# Altium schematic symbol library SUPER28335.SCHLIB: 50 symbols
Pins are listed as number, name and electrical type; pins without a type are passive.

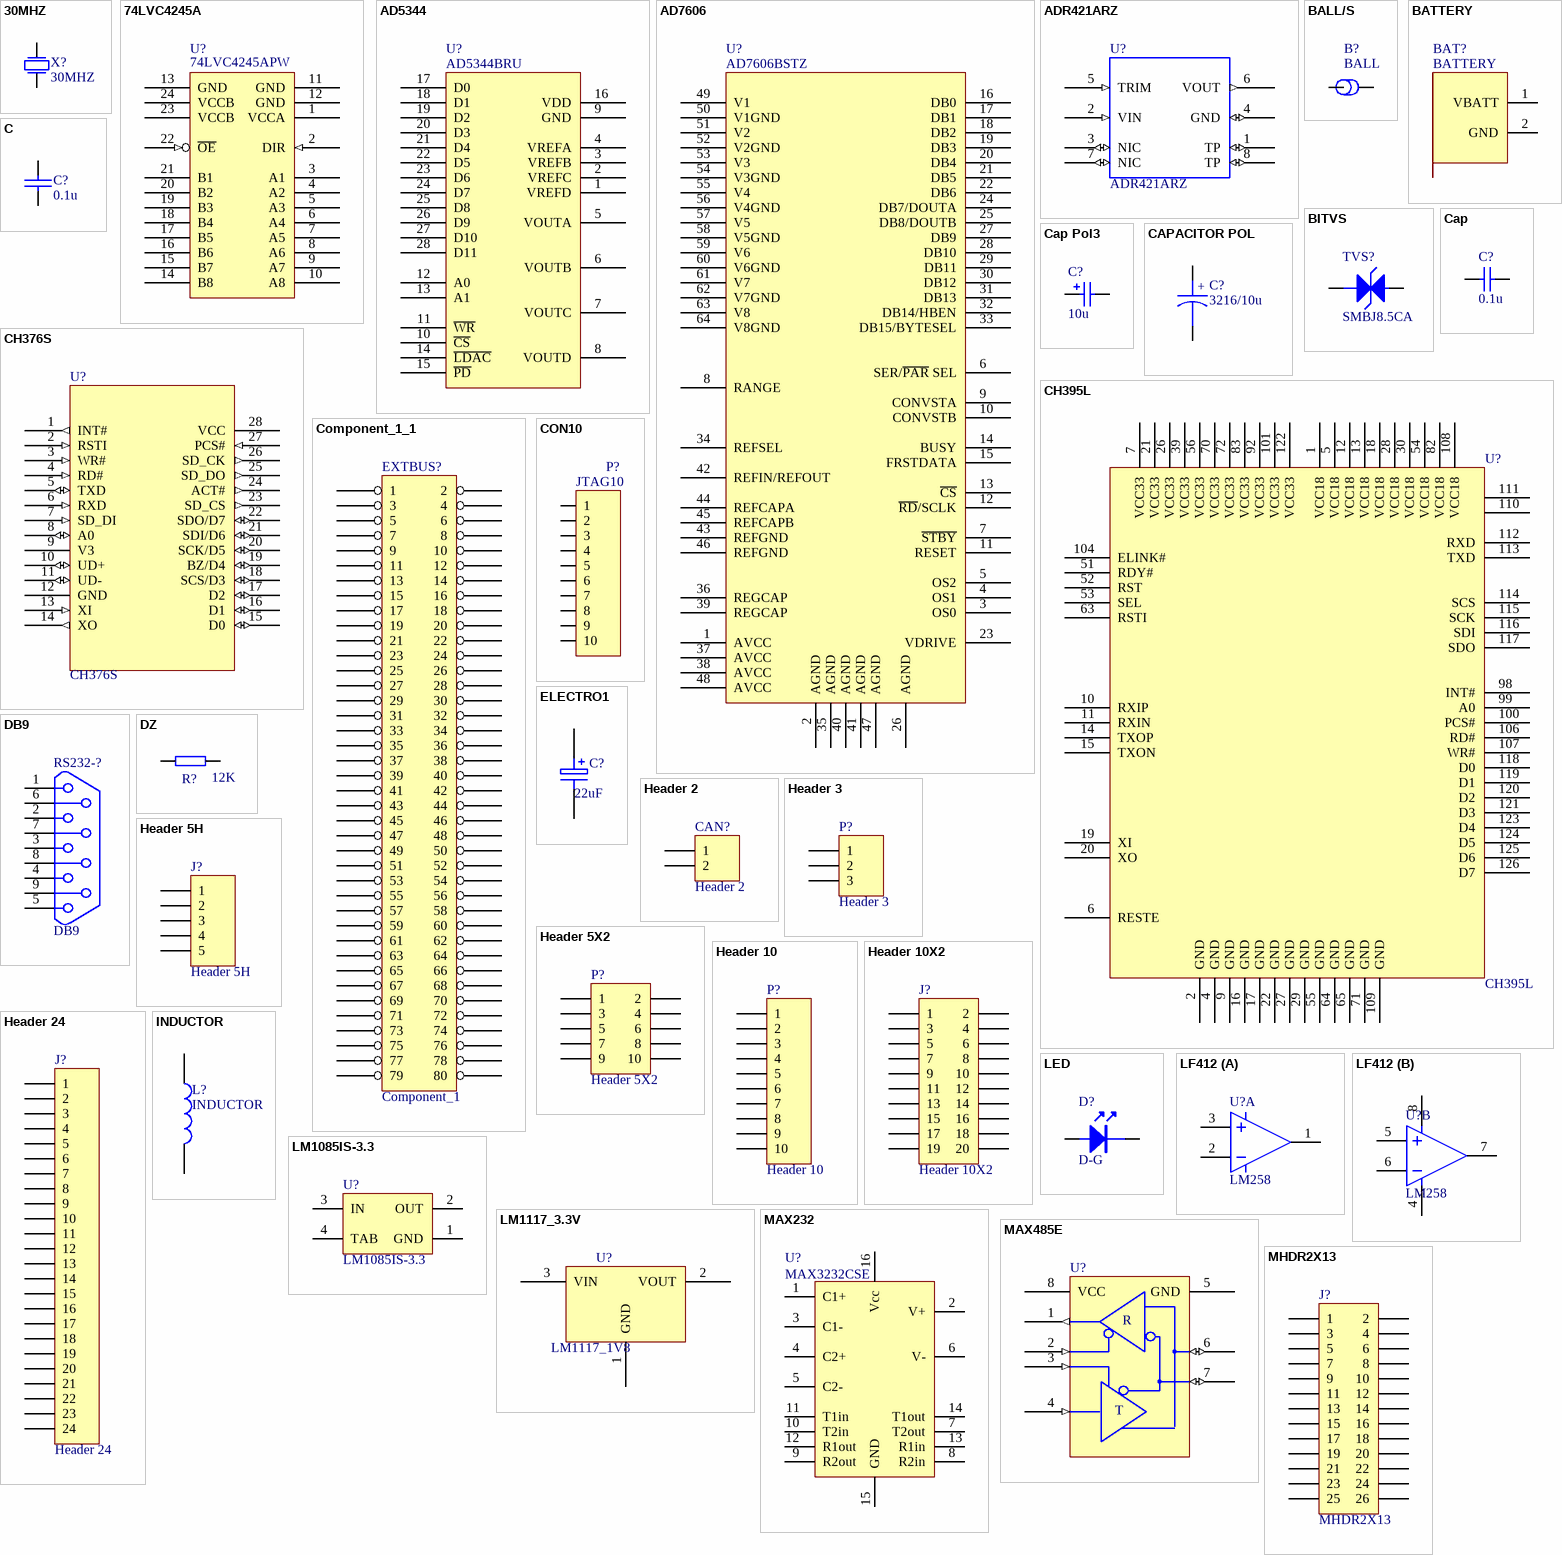
[diagram p0: symbols 30MHZ to MHDR2X13]

## 30MHZ
designator X?
Crystal Oscillator
simulation model 30MHZ (SUBCKT)
footprint XTAL62/28
pins: 1 P1, 2 P2

## 74LVC4245A
designator U?, comment 74LVC4245APW
footprint TSOP-24
pins: 1 VCCA, 2 DIR (in), 3 A1, 4 A2, 5 A3, 6 A4, 7 A5, 8 A6, 9 A7, 10 A8, 11 GND, 12 GND, 13 GND, 14 B8, 15 B7, 16 B6, 17 B5, 18 B4, 19 B3, 20 B2, 21 B1, 22 ~{OE} (in), 23 VCCB, 24 VCCB
2 alternate drawings of the same symbol

## AD5344
designator U?, comment AD5344BRU
footprint TSOP-28
pins: 1 VREFD, 2 VREFC, 3 VREFB, 4 VREFA, 5 VOUTA, 6 VOUTB, 7 VOUTC, 8 VOUTD, 9 GND, 10 ~{CS}, 11 ~{WR}, 12 A0, 13 A1, 14 ~{LDAC}, 15 ~{PD}, 16 VDD, 17 D0, 18 D1, 19 D2, 20 D3, 21 D4, 22 D5, 23 D6, 24 D7, 25 D8, 26 D9, 27 D10, 28 D11
2 alternate drawings of the same symbol

## AD7606
designator U?, comment AD7606BSTZ
AD7606
footprint QFP64-1
footprint TQFP64
pins: 1 AVCC, 2 AGND, 3 OS0, 4 OS1, 5 OS2, 6 SER/~{PAR} SEL, 7 ~{STBY}, 8 RANGE, 9 CONVSTA, 10 CONVSTB, 11 RESET, 12 ~{RD}/SCLK, 13 ~{CS}, 14 BUSY, 15 FRSTDATA, 16 DB0, 17 DB1, 18 DB2, 19 DB3, 20 DB4, 21 DB5, 22 DB6, 23 VDRIVE, 24 DB7/DOUTA, 25 DB8/DOUTB, 26 AGND, 27 DB9, 28 DB10, 29 DB11, 30 DB12, 31 DB13, 32 DB14/HBEN, 33 DB15/BYTESEL, 34 REFSEL, 35 AGND, 36 REGCAP, 37 AVCC, 38 AVCC, 39 REGCAP, 40 AGND, 41 AGND, 42 REFIN/REFOUT, 43 REFGND, 44 REFCAPA, 45 REFCAPB, 46 REFGND, 47 AGND, 48 AVCC, 49 V1, 50 V1GND (power), 51 V2, 52 V2GND, 53 V3, 54 V3GND, 55 V4, 56 V4GND, 57 V5, 58 V5GND, 59 V6, 60 V6GND, 61 V7, 62 V7GND, 63 V8, 64 V8GND
2 alternate drawings of the same symbol

## ADR421ARZ
designator U?
BodyName: *; Instance: *; PartName: *; PLACEMENT_REGION: *; CompValue: *; Right: *; Bottom: *; SymName: *; RefLocation: *; BoardLocation: *; SlotXofY: *
footprint R-8
footprint SO-8
pins: 1 TP (io), 2 VIN (in), 3 NIC (io), 4 GND (io), 5 TRIM (in), 6 VOUT (out), 7 NIC (io), 8 TP (io)
2 alternate drawings of the same symbol

## BALL/S
designator B?, comment BALL
footprint 0805-S
pins: 1, 2

## BATTERY
designator BAT?
footprint BAT600 (Footprint not found)
pins: 1 VBATT, 2 GND

## BITVS
designator TVS?, comment SMBJ8.5CA
footprint BITVS4
footprint 7227
pins: 1, 2

## C
designator C?, comment 0.1u
footprint C1
footprint C2
footprint C3
footprint C4
footprint 0805
footprint 0603
pins: 1, 2
2 alternate drawings of the same symbol

## Cap
designator C?, comment 0.1u
Capacitor; Published: 8-Jun-2000; LatestRevisionDate: 17-Jul-2002; LatestRevisionNote: Re-released for DXP Platform.; PackageReference: RAD-0.3; Publisher: Altium Limited
footprint RAD-0.3 (Radial Cap, Thru-Hole; 2 Leads; 0.3 in Pin Spacing)
footprint CAPR2.54-5.1x3.2 (Capacitor, Ceramic, Thru-Hole, Dipped Radial; Body 5.1 x 3.2 mm (WxT) Pin Spacing 2.54 mm (typ))
footprint CAPR5.08-7.8x3.2 (Capacitor, Ceramic, Thru-Hole, Dipped Radial; Body 7.8 x 3.2 mm (WxT) Pin Spacing 5.08 mm (typ))
simulation model CAP (Capacitor)
signal-integrity model Cap
footprint 0805
footprint 0603
pins: 1, 2

## Cap Pol3
designator C?, comment 10u
Polarized Capacitor (Surface Mount); Value: 10uF/16V; Published: 8-Jun-2000; LatestRevisionDate: 29-May-2009; LatestRevisionNote: IPC-7351 Footprint Added.; PackageReference: C0805; Publisher: Altium Limited; PackageDescription: Chip Capacitor
footprint CAPC2012L (Chip Capacitor, Body 2.0x1.3mm, IPC High Density)
footprint CAPC4532L (Chip Capacitor, Body 4.5x3.2mm, IPC High Density)
footprint CAPC4564L (Chip Capacitor, Body 4.5x6.4mm, IPC High Density)
footprint CAPC5764L (Chip Capacitor, Body 5.7x6.4mm, IPC High Density)
footprint CAPC5750L (Chip Capacitor, Body 5.7x5.0mm, IPC High Density)
simulation model CAP (Capacitor)
signal-integrity model Cap Pol
footprint 0805
pins: 1, 2
1 alternate drawing of the same symbol

## CAPACITOR POL
designator C?, comment 3216/10u
Capacitor
footprint 0805
footprint 3216
pins: 1, 2
2 alternate drawings of the same symbol
text: +

## CH376S
designator U?
USB Host and SD card Host with File System & USB Device for MCU, parallel / SPI / UART Serial
footprint SOP28
footprint DIP28
pins: 1 INT# (out), 2 RSTI (in), 3 WR# (in), 4 RD# (in), 5 TXD (io), 6 RXD (in), 7 SD_DI (in), 8 A0 (io), 9 V3 (power), 10 UD+ (io), 11 UD- (io), 12 GND (power), 13 XI (in), 14 XO (out), 15 D0 (io), 16 D1 (io), 17 D2 (io), 18 SCS/D3 (io), 19 BZ/D4 (io), 20 SCK/D5 (io), 21 SDI/D6 (io), 22 SDO/D7 (io), 23 SD_CS (out), 24 ACT# (out), 25 SD_DO (out), 26 SD_CK (out), 27 PCS# (in), 28 VCC (power)

## CH395L
designator U?
footprint LQFP128
pins: 1 VCC18, 2 GND, 4 GND, 5 VCC18, 6 RESTE, 7 VCC33, 9 GND, 10 RXIP, 11 RXIN, 12 VCC18, 13 VCC18, 14 TXOP, 15 TXON, 16 GND, 17 GND, 18 VCC18, 19 XI, 20 XO, 21 VCC33, 22 GND, 26 VCC33, 27 GND, 28 VCC18, 29 GND, 30 VCC18, 39 VCC33, 51 RDY#, 52 RST, 53 SEL, 54 VCC18, 55 GND, 56 VCC33, 63 RSTI, 64 GND, 65 GND, 70 VCC33, 71 GND, 72 VCC33, 82 VCC18, 83 VCC33, 92 VCC33, 98 INT#, 99 A0, 100 PCS#, 101 VCC33, 104 ELINK#, 106 RD#, 107 WR#, 108 VCC18, 109 GND, 110, 111, 112 RXD, 113 TXD, 114 SCS, 115 SCK, 116 SDI, 117 SDO, 118 D0, 119 D1, 120 D2, 121 D3, 122 VCC33, 123 D4, 124 D5, 125 D6, 126 D7

## Component_1_1
designator EXTBUS?, comment Component_1
footprint PLUG80 (Footprint not found)
pins: 1, 2, 3, 4, 5, 6, 7, 8, 9, 10, 11, 12, 13, 14, 15, 16, 17, 18, 19, 20, 21, 22, 23, 24, 25, 26, 27, 28, 29, 30, 31, 32, 33, 34, 35, 36, 37, 38, 39, 40, 41, 42, 43, 44, 45, 46, 47, 48, 49, 50, 51, 52, 53, 54, 55, 56, 57, 58, 59, 60, 61, 62, 63, 64, 65, 66, 67, 68, 69, 70, 71, 72, 73, 74, 75, 76, 77, 78, 79, 80

## CON10
designator P?, comment JTAG10
footprint IDC10-1
pins: 1, 2, 3, 4, 5, 6, 7, 8, 9, 10
2 alternate drawings of the same symbol

## DB9
designator RS232-?
footprint DB-9RA/M (Footprint not found)
pins: 1, 2, 3, 4, 5, 6, 7, 8, 9

## DZ
designator R?, comment 12K
footprint AXIAL0.3
footprint 0603
footprint 0805
pins: 1, 2

## ELECTRO1
designator C?, comment 22uF
Electrolytic Capacitor
footprint 3528
pins: 1, 2

## Header 2
designator CAN?
Header, 2-Pin; LatestRevisionDate: 17-Jul-2002; LatestRevisionNote: Re-released for DXP Platform.; Publisher: Altium Limited
footprint HDR1X2 (Connector; Header; 2 Position)
signal-integrity model Connector
pins: 1, 2

## Header 3
designator P?
Header, 3-Pin; LatestRevisionDate: 17-Jul-2002; LatestRevisionNote: Re-released for DXP Platform.; Publisher: Altium Limited
footprint HDR1X3 (Connector; Header; 3 Position)
signal-integrity model Connector
pins: 1, 2, 3

## Header 5H
designator J?
Header, 5-Pin, Right Angle; LatestRevisionDate: 17-Jul-2002; LatestRevisionNote: Re-released for DXP Platform.; Publisher: Altium Limited
footprint SIP5 (Footprint not found)
signal-integrity model Connector
pins: 1, 2, 3, 4, 5

## Header 5X2
designator P?
Header, 5-Pin, Dual row; LatestRevisionDate: 17-Jul-2002; LatestRevisionNote: Re-released for DXP Platform.; Publisher: Altium Limited
footprint DIP10-2mm
pins: 1, 2, 3, 4, 5, 6, 7, 8, 9, 10

## Header 10
designator P?
Header, 10-Pin; LatestRevisionDate: 17-Jul-2002; LatestRevisionNote: Re-released for DXP Platform.; Publisher: Altium Limited
footprint HDR110 (Connector; Header; 10 Position)
signal-integrity model Connector
pins: 1, 2, 3, 4, 5, 6, 7, 8, 9, 10

## Header 10X2
designator J?
Header, 10-Pin, Dual row; LatestRevisionDate: 17-Jul-2002; LatestRevisionNote: Re-released for DXP Platform.; Publisher: Altium Limited
footprint HDR210 (Footprint not found)
signal-integrity model Connector
pins: 1, 2, 3, 4, 5, 6, 7, 8, 9, 10, 11, 12, 13, 14, 15, 16, 17, 18, 19, 20

## Header 24
designator J?
Header, 24-Pin; LatestRevisionDate: 17-Jul-2002; LatestRevisionNote: Re-released for DXP Platform.; Publisher: Altium Limited
footprint PLUG24 (Footprint not found)
signal-integrity model Connector
pins: 1, 2, 3, 4, 5, 6, 7, 8, 9, 10, 11, 12, 13, 14, 15, 16, 17, 18, 19, 20, 21, 22, 23, 24

## INDUCTOR
designator L?
footprint 1206 (Footprint not found)
pins: 1, 2
2 alternate drawings of the same symbol

## LED
designator D?, comment D-G
footprint LED1
footprint LED1/2
footprint LED0805-JW
pins: 1, 2
2 alternate drawings of the same symbol

## LF412
designator U?, comment LM258
footprint DIP8
footprint SO-8
part A pins: 1, 2, 3
part B pins: 4, 5, 6, 7, 8
2 alternate drawings of the same symbol

## LM1085IS-3.3
designator U?
3A Low Dropout Positive Regulators; Manufacturer: National Semiconductor; CompType: LDO IC; PackageTopMarking: NSUZXYTTE#*LM1085*IS-3.3; PowerWise: N; Published: 4-Dec-2008; DatasheetVersion: Jun-2005; PackageVersion: revF, Apr-2005; PackageReference: TS3B; Publisher: Altium Limited; PackageDescription: TO-263, Molded, .400 x .390 x .180in, 3 Lead, .1in Pitch, Surface Mount; PartNumber: LM1085IS-3.3; RoHS: O; PinCount: 3; DigiKeyPartNumber: LM1085IS-3.3-ND; Code_JEDEC: MO-169-AA; ComponentLink1Description: LM1085 Datasheet; ComponentLink1URL: http://www.national.com/ds/LM/LM1085.pdf; ComponentLink2Description: LM1085 Web Page; ComponentLink2URL: http://www.national.com/pf/LM/LM1085.html; ComponentLink3Description: TS3B Package Page; ComponentLink3URL: http://www.national.com/packaging/folders/ts3b.html
footprint TS3B_N (D2-PAK, 4-Leads, Body 8.6x10.2mm, Pitch 2.54mm, Lead Span 14.2mm, IPC Medium Density)
footprint TS3B_L (D2-PAK, 4-Leads, Body 8.6x10.2mm, Pitch 2.54mm, Lead Span 14.2mm, IPC High Density)
footprint TS3B_M (D2-PAK, 4-Leads, Body 8.6x10.2mm, Pitch 2.54mm, Lead Span 14.2mm, IPC Low Density)
pins: 1 GND (power), 2 OUT (power), 3 IN (power), 4 TAB (power)

## LM1117_3.3V
designator U?, comment LM1117_1V8
footprint SOT-223
pins: 1 GND, 2 VOUT, 3 VIN

## MAX232
designator U?, comment MAX3232CSE
footprint DIP16
footprint SO-16
pins: 1 C1+, 2 V+, 3 C1-, 4 C2+, 5 C2-, 6 V-, 7 T2out, 8 R2in, 9 R2out, 10 T2in, 11 T1in, 12 R1out, 13 R1in, 14 T1out, 15 GND, 16 Vcc
2 alternate drawings of the same symbol

## MAX485E
designator U?, comment MAX485  (value not drawn)
footprint DIP8
footprint so-8
pins: 1 (out), 2 (in), 3 (in), 4 (in), 5 GND (power), 6 (io), 7 (io), 8 VCC (power)
text: R; T

## MHDR2X13
designator J?
Header, 13-Pin, Dual row; LatestRevisionDate: 17-Jul-2002; LatestRevisionNote: Re-released for DXP Platform.; Publisher: Altium Limited
footprint IDC26
signal-integrity model Connector
pins: 1, 2, 3, 4, 5, 6, 7, 8, 9, 10, 11, 12, 13, 14, 15, 16, 17, 18, 19, 20, 21, 22, 23, 24, 25, 26

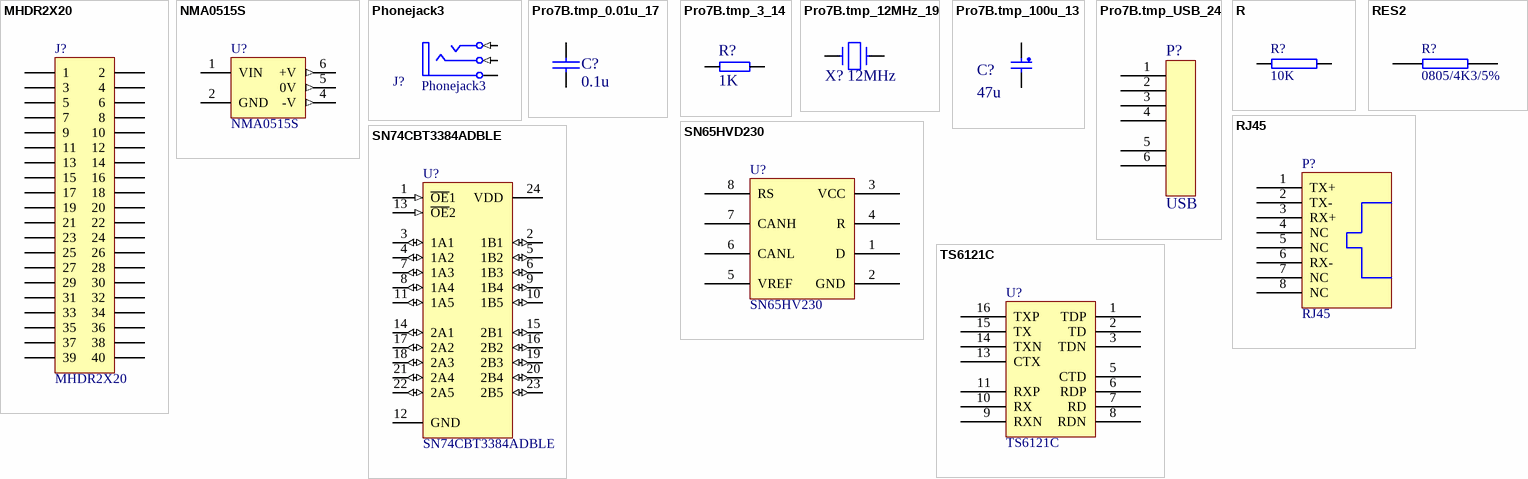
[diagram p1: symbols MHDR2X20 to TS6121C]

## MHDR2X20
designator J?
Header, 20-Pin, Dual row; LatestRevisionDate: 17-Jul-2002; LatestRevisionNote: Re-released for DXP Platform.; Publisher: Altium Limited
footprint MHDR2X20 (Connector; Header; 20x2 Position)
signal-integrity model Connector
pins: 1, 2, 3, 4, 5, 6, 7, 8, 9, 10, 11, 12, 13, 14, 15, 16, 17, 18, 19, 20, 21, 22, 23, 24, 25, 26, 27, 28, 29, 30, 31, 32, 33, 34, 35, 36, 37, 38, 39, 40

## NMA0515S
designator U?
Isolated 1W Dual Output; Note: Pins 3 and 7 are not present.; Published: 8-Jun-2000; LatestRevisionDate: 17-Jul-2002; LatestRevisionNote: Re-released for DXP Platform.; DatasheetVersion: Jul-1996; PackageVersion: 1996; PackageReference: NPSIP7; Publisher: Altium Limited; PackageDescription: SIP; 7 Leads (2 Absent); Body 19.5 x 6 mm (LxW typ); Pitch 2.54 mm; ComponentLink1Description: Manufacturer Link; ComponentLink1URL: http://www.dc-dc.com/; ComponentLink2Description: Datasheet; ComponentLink2URL: http://www.cd4power.com/data/power/ncl/ndc_nma_3.pdf
footprint MIP-6 (Footprint not found)
pins: 1 VIN (power), 2 GND (power), 4 -V (out), 5 0V (out), 6 +V (out)

## Phonejack3
designator J?
Jack Socket, 1/4" [6.5mm], Thru-Hole, Vertical, 3-Conductor Open Circuit (Non-Normalling); PackageDocument: 2003; PCB_Layout: Complies with manufacturer's recommendation.; DrillAndSlotSize: Corresponds to nominal value.; Published: 15-Jul-2004; LatestRevisionDate: 15-Jul-2004; LatestRevisionNote: Component Replaced.; DatasheetDocument: 2003; PackageReference: S1VS_SSS; Publisher: Altium Limited; ComponentLink1Description: Manufacturer Link; ComponentLink1URL: http://www.cliffuk.co.uk/
footprint POWER_PLUG (Footprint not found)
signal-integrity model JACK Socket
pins: 1 T (in) "Tip/Left Channel/(+)", 2 R (in) "Ring/Right Channel/(-)", 3 S (power) "Sleeve (Ground)"

## Pro7B.tmp_0.01u_17
designator C?, comment 0.1u
footprint 0805
pins: 1, 2

## Pro7B.tmp_3_14
designator R?, comment 1K
footprint 0805
pins: 1, 2

## Pro7B.tmp_12MHz_19
designator X?, comment 12MHz
footprint XTAL1
footprint XTAL40/24
pins: 1, 2

## Pro7B.tmp_100u_13
designator C?, comment 47u
footprint CD0.1
footprint 3528
pins: 1, 2

## Pro7B.tmp_USB_24
designator P?, comment USB
footprint USBA
pins: 1, 2, 3, 4, 5, 6

## R
designator R?, comment 10K
footprint AXIAL0.4
footprint R4
footprint 0805
footprint 0603
pins: 1, 2
2 alternate drawings of the same symbol

## RES2
designator R?, comment 0805/4K3/5%
footprint 0603
footprint 0805
pins: 1, 2
2 alternate drawings of the same symbol

## RJ45
designator P?
footprint RJ45
pins: 1 TX+, 2 TX-, 3 RX+, 4 NC, 5 NC, 6 RX-, 7 NC, 8 NC

## SN65HVD230
designator U?, comment SN65HV230
footprint SO-8 (Footprint not found)
pins: 1 D, 2 GND, 3 VCC, 4 R, 5 VREF, 6 CANL, 7 CANH, 8 RS
1 alternate drawing of the same symbol

## SN74CBT3384ADBLE
designator U?
10-Bit FET Bus Switch; ComponentAvailability: Obsolete; Published: 8-Jun-2000; LatestRevisionDate: 16-Oct-2006; LatestRevisionNote: IPC-7351 Footprint Added.; DatasheetVersion: May-1998; PackageVersion: May-1999; PackageReference: DB024; Publisher: Altium Limited; PackageDescription: 24-Pin Plastic Small Outline Package 0.65 mm Pitch; Code_JEDEC: MO-150-AG; Code_IPC: SOP65P780-24; ComponentLink1Description: Manufacturer Link; ComponentLink1URL: http://www.ti.com/; ComponentLink2Description: Datasheet; ComponentLink2URL: http://www-s.ti.com/sc/ds/sn74cbt3384a.pdf
footprint 3384 (Footprint not found)
footprint DB024_L (SOP, 24-Leads, Body 8.2x5.3mm, Pitch 0.65mm, IPC High Density)
footprint DB024_M (SOP, 24-Leads, Body 8.2x5.3mm, Pitch 0.65mm, IPC Low Density)
3D model DB024 (24-Pin Plastic Small Outline Package 0.65 mm Pitch)
pins: 1 ~{OE}1 (in), 2 1B1 (io), 3 1A1 (io), 4 1A2 (io), 5 1B2 (io), 6 1B3 (io), 7 1A3 (io), 8 1A4 (io), 9 1B4 (io), 10 1B5 (io), 11 1A5 (io), 12 GND (power), 13 ~{OE}2 (in), 14 2A1 (io), 15 2B1 (io), 16 2B2 (io), 17 2A2 (io), 18 2A3 (io), 19 2B3 (io), 20 2B4 (io), 21 2A4 (io), 22 2A5 (io), 23 2B5 (io), 24 VDD (power)

## TS6121C
designator U?
footprint HR601680
pins: 1 TDP, 2 TD, 3 TDN, 5 CTD, 6 RDP, 7 RD, 8 RDN, 9 RXN, 10 RX, 11 RXP, 13 CTX, 14 TXN, 15 TX, 16 TXP

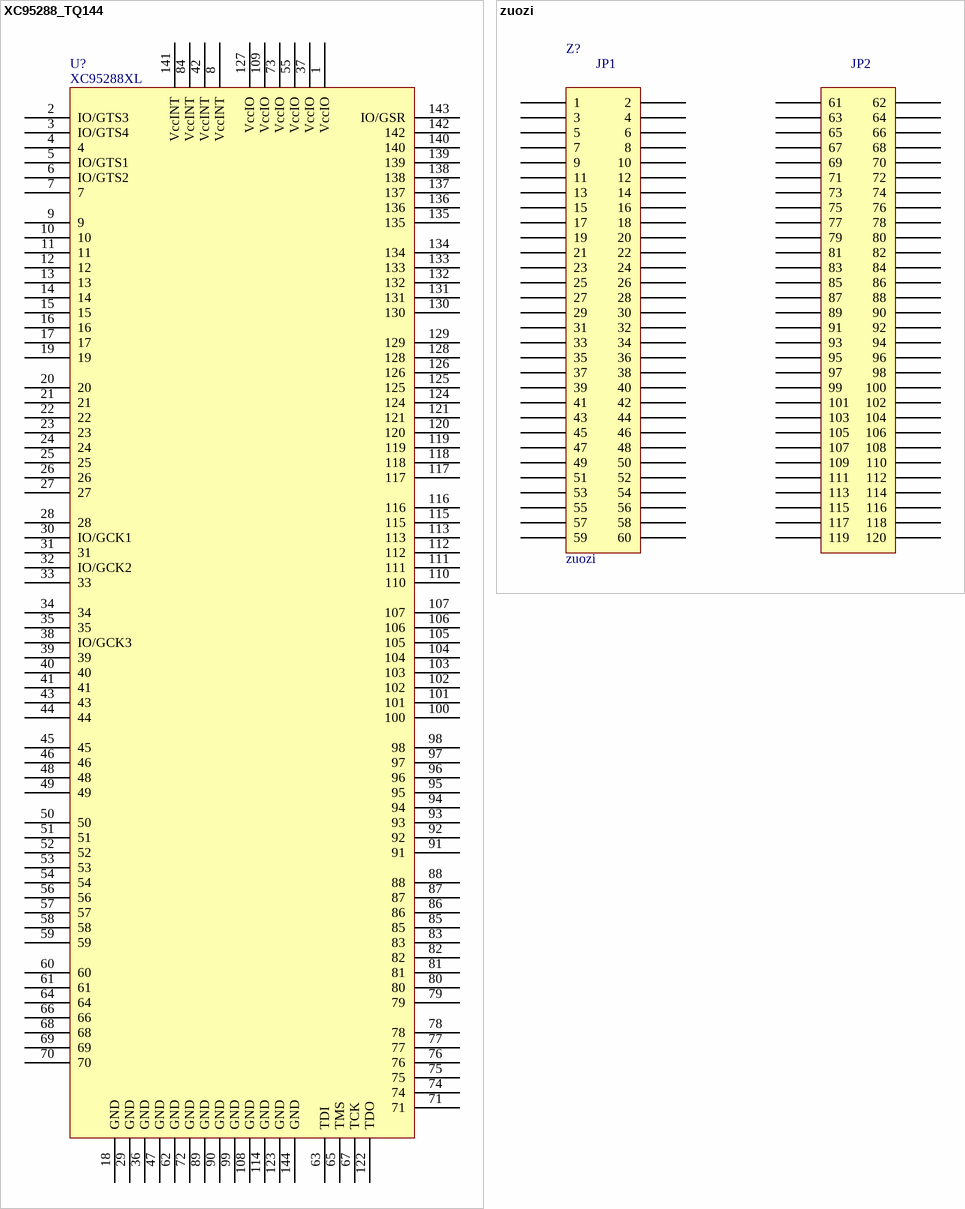
[diagram p2: symbols XC95288_TQ144 to zuozi]

## XC95288_TQ144
designator U?, comment XC95288XL
footprint TQFP100
footprint QFP144
pins: 1 VccIO, 2 IO/GTS3, 3 IO/GTS4, 4, 5 IO/GTS1, 6 IO/GTS2, 7, 8 VccINT, 9, 10, 11, 12, 13, 14, 15, 16, 17, 18 GND, 19, 20, 21, 22, 23, 24, 25, 26, 27, 28, 29 GND, 30 IO/GCK1, 31, 32 IO/GCK2, 33, 34, 35, 36 GND, 37 VccIO, 38 IO/GCK3, 39, 40, 41, 42 VccINT, 43, 44, 45, 46, 47 GND, 48, 49, 50, 51, 52, 53, 54, 55 VccIO, 56, 57, 58, 59, 60, 61, 62 GND, 63 TDI, 64, 65 TMS, 66, 67 TCK, 68, 69, 70, 71, 72 GND, 73 VccIO, 74, 75, 76, 77, 78, 79, 80, 81, 82, 83, 84 VccINT, 85, 86, 87, 88, 89 GND, 90 GND, 91, 92, 93, 94, 95, 96, 97, 98, 99 GND, 100, 101, 102, 103, 104, 105, 106, 107, 108 GND, 109 VccIO, 110, 111, 112, 113, 114 GND, 115, 116, 117, 118, 119, 120, 121, 122 TDO, 123 GND, 124, 125, 126, 127 VccIO, 128, 129, 130, 131, 132, 133, 134, 135, 136, 137, 138, 139, 140, 141 VccINT, 142, 143 IO/GSR, 144 GND
2 alternate drawings of the same symbol

## zuozi
designator Z?
footprint zuozi
pins: 1, 2, 3, 4, 5, 6, 7, 8, 9, 10, 11, 12, 13, 14, 15, 16, 17, 18, 19, 20, 21, 22, 23, 24, 25, 26, 27, 28, 29, 30, 31, 32, 33, 34, 35, 36, 37, 38, 39, 40, 41, 42, 43, 44, 45, 46, 47, 48, 49, 50, 51, 52, 53, 54, 55, 56, 57, 58, 59, 60, 61, 62, 63, 64, 65, 66, 67, 68, 69, 70, 71, 72, 73, 74, 75, 76, 77, 78, 79, 80, 81, 82, 83, 84, 85, 86, 87, 88, 89, 90, 91, 92, 93, 94, 95, 96, 97, 98, 99, 100, 101, 102, 103, 104, 105, 106, 107, 108, 109, 110, 111, 112, 113, 114, 115, 116, 117, 118, 119, 120
text: JP1; JP2